# Altium schematic symbol library EitLib.SchLib: 60 symbols (part 1 of 3)
Pins are listed as number, name and electrical type; pins without a type are passive.

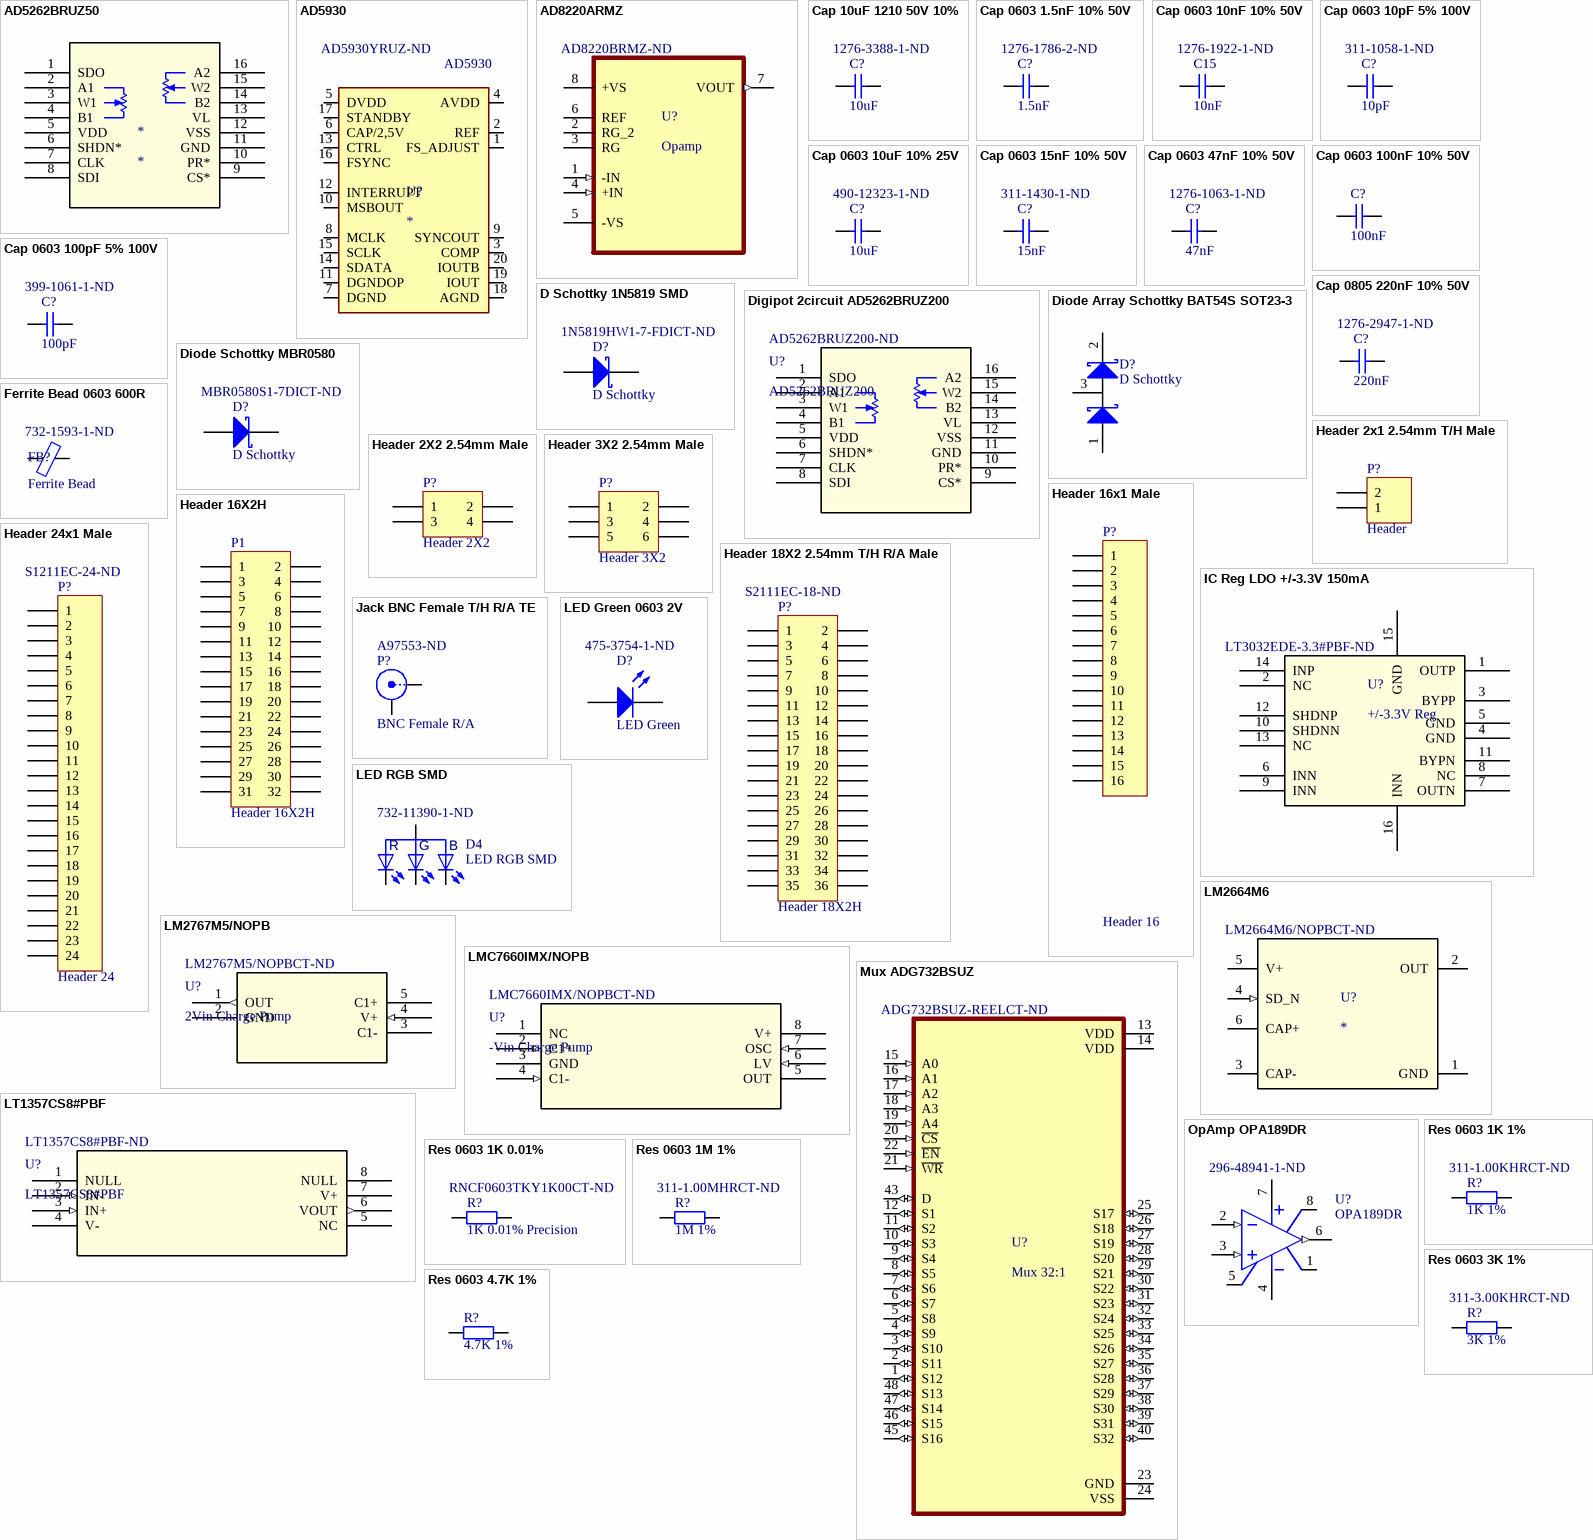
[diagram p0: symbols AD5262BRUZ50 to Res 0603 4.7K 1%]

## AD5262BRUZ50
designator *
Digital Potentiometer, 2 Func, 50000ohm, 3-wire Serial Control Interface, 256 Positions, PDSO16; Manufacturer: Analog Devices; Manufacturer Part Number: AD5262BRUZ50; Package Body Material: Plastic; Bandwidth-Nom: 130Hz; Negative Supply Voltage-Nom: -5V; Channels: 2; Number of Positions: 256; Package Equivalence Code: TSSOP16,.25; Power Supplies: 5/15/+-5V; Resistance Law: Linear; Resistance Tolerance-Max: 30%; Resistor Terminal Voltage-Max: 5V; Temperature Coefficient-Nom: 35ppm/°C; Time @ Peak Reflow Temperature-Max (s): 30s; Total Resistance-Nom: 50kR; Qualification Status: Not Qualified; Supplier: Digi-Key; Supplier Part Number: 505-AD5262BRUZ50-ND; RoHS: Yes; Category: Digital Potentiometers; Stock: 1452; Pricing: 1=6.18, 10=5.581, 25=5.3212, 100=4.6203, 250=4.41268, 500=4.02334, 1000=3.5042, 2500=3.37441 (USD); Case/Package: TSSOP; Pins: 16; Package Shape: Rectangular; Terminal Finish: Tin; Min Operating Temperature: -40°C; Max Operating Temperature: 85°C; JESD-609 Code: e3; Control Interface: 3-WIRE SERIAL; Converter Type: DIGITAL POTENTIOMETER; JESD-30 Code: R-PDSO-G16; Moisture Sensitivity Level: 1; Package Style: SMALL OUTLINE, THIN PROFILE, SHRINK PITCHMeter; Peak Reflow Temperature (Cel): 260°C; Resistor Terminal Voltage-Min: -5V; Nominal Supply Voltage: 5V; Surface Mount: Yes; Terminal Form: Gull Wing; Terminal Position: DUAL; Length: 5mm; Width: 4.4mm; Height - Seated (Max): 1.2mm; Terminal Pitch: 0.65mm; Temperature Grade: INDUSTRIAL; Reach SVHC Compliant: Yes; RoHS Compliant: Yes; ComponentLink1URL: https://datasheet.ciiva.com:443/pdfs/VipMasterIC/IC/ANDI/ANDIS19757/ANDIS19757-1.pdf?src-supplier=IHS+Markit; ComponentLink1Description: https://datasheet.ciiva.com:443/pdfs/VipMasterIC/IC/ANDI/ANDIS19757/ANDIS19757-1.pdf?src-supplier=IHS+Markit; ComponentLink2URL: https://datasheet.ciiva.com/3045/ad5260-5262-3045560.pdf?src-supplier=Avnet; ComponentLink2Description: https://datasheet.ciiva.com/3045/ad5260-5262-3045560.pdf?src-supplier=Avnet; ComponentLink3URL: https://datasheet.ciiva.com/1331/ad5260-5262-1331021.pdf?src-supplier=Digi-Key; ComponentLink3Description: https://datasheet.ciiva.com/1331/ad5260-5262-1331021.pdf?src-supplier=Digi-Key; ComponentLink4URL: https://datasheet.ciiva.com/22652/686036-22652986.pdf?src-supplier=Element14; ComponentLink4Description: https://datasheet.ciiva.com/22652/686036-22652986.pdf?src-supplier=Element14
pins: 1 SDO, 2 A1, 3 W1, 4 B1, 5 VDD (power), 6 SHDN*, 7 CLK, 8 SDI, 9 CS*, 10 PR*, 11 GND, 12 VSS (power), 13 VL (power), 14 B2, 15 W2, 16 A2

## AD5930
designator U?  Supplier Part Number 1: AD5930YRUZ-ND
Direct Digital Synthesizer 50MHz 1-DAC 10bit Serial Automotive 20-Pin TSSOP Tube; Manufacturer Part Number: AD5930YRUZ; MP: AD5930; MF: Analog Devices; Resolution: 10b; Power Dissipation: 40mW; Number of Bits: 10; Min Supply Voltage: 2.3V; Max Supply Voltage: 5.5V; Number of Converters: 1; Signal to Noise Ratio (SNR): 60dB; Operating Supply Current: 8mA; Check_prices: https://www.snapeda.com/parts/AD5930/Analog%20Devices%20Inc./view-part/3610977/?ref=eda; SnapEDA_Link: https://www.snapeda.com/parts/AD5930/Analog%20Devices%20Inc./view-part/3610977/?ref=snap; Price: None; Package: TSSOP-20 Analog Devices; Availability: Bad; Value: *; Supplier 1: Digi-Key; Manufacturer: Analog Devices; RoHS: Yes; Category: Clock and Timing; Stock 1: 50; Pricing 1: 1=14.64000, 10=13.45200, 25=12.89440, 100=11.36110, 250=10.80352, 500=10.10650, 1000=9.27010 (USD); Mount: Surface Mount; Case/Package: TSSOP; Number of Pins: 20; Contact Plating: Tin,Matte; Min Operating Temperature: -40°C; Max Operating Temperature: 125°C; Packaging: Rail/Tube; Frequency: 50MHz; Package Quantity: 75; Series: -; Length: 6.5mm; Width: 4.4mm; Height: 1.05mm; Radiation Hardening: No; REACH SVHC: No SVHC; Lead Free: Contains Lead; RoHS Compliant: Yes; ComponentLink1URL: https://datasheet.ciiva.com/1699/ad5930-1699603.pdf?src-supplier=Digi-Key; ComponentLink1Description: https://datasheet.ciiva.com/1699/ad5930-1699603.pdf?src-supplier=Digi-Key; ComponentLink2URL: https://datasheet.ciiva.com/27747/1780598-27747765.pdf?src-supplier=Jameco; ComponentLink2Description: https://datasheet.ciiva.com/27747/1780598-27747765.pdf?src-supplier=Jameco; ComponentLink3URL: https://datasheet.ciiva.com/15100/getdatasheetpartid-145232-15100554.pdf?src-supplier=Verical; ComponentLink3Description: https://datasheet.ciiva.com/15100/getdatasheetpartid-145232-15100554.pdf?src-supplier=Verical; ComponentLink4URL: https://datasheet.ciiva.com/1138/1784513-1138350.pdf?src-supplier=Element14; ComponentLink4Description: https://datasheet.ciiva.com/1138/1784513-1138350.pdf?src-supplier=Element14; ComponentLink5URL: https://datasheet.ciiva.com/26828/ad5930yruz-26828194.pdf?src-supplier=IIIC; ComponentLink5Description: https://datasheet.ciiva.com/26828/ad5930yruz-26828194.pdf?src-supplier=IIIC; ComponentLink6URL: https://datasheet.ciiva.com/8082/ad5930-8082133.pdf?src-supplier=Avnet; ComponentLink6Description: https://datasheet.ciiva.com/8082/ad5930-8082133.pdf?src-supplier=Avnet; ComponentLink7URL: https://datasheet.ciiva.com/16643/ad5930-16643366.pdf?src-supplier=Avnet+Europe; ComponentLink7Description: https://datasheet.ciiva.com/16643/ad5930-16643366.pdf?src-supplier=Avnet+Europe
footprint TSSOP20
pins: 1 FS_ADJUST (io), 2 REF (io), 3 COMP (io), 4 AVDD (power), 5 DVDD (power), 6 CAP/2,5V (io), 7 DGND (power), 8 MCLK (io), 9 SYNCOUT (io), 10 MSBOUT (io), 11 DGNDOP (power), 12 INTERRUPT (io), 13 CTRL (io), 14 SDATA (io), 15 SCLK (io), 16 FSYNC (io), 17 STANDBY (io), 18 AGND (power), 19 IOUT (io), 20 IOUTB (io)

## AD8220ARMZ
designator U?, comment Opamp  Supplier Part Number 1: AD8220BRMZ-ND
ANALOG DEVICES   AD8220BRMZ   Instrument Amplifier, 1, 125 V, 2 V/s, 800 kHz,  2.25V to  18V, MSOP; Number of Channels: 1; Common Mode Rejection Ratio: 100dB; Max Supply Voltage: 36V; Min Supply Voltage: 4.5V; Bandwidth: 800kHz; Operating Supply Voltage: 28V; -3db Bandwidth: 1.5MHz; Dual Supply Voltage: 9V; Slew Rate: 2V/µs; Input Bias Current: 10pA; Input Offset Voltage (Vos): 125uV; Voltage Gain: 60dB; Operating Supply Current: 750uA; Output Current per Channel: 15mA; Amplifier Type: INSTRUMENTATION AMPLIFIER; Supplier 1: Digi-Key; Manufacturer: Analog Devices; Manufacturer Part Number: AD8220BRMZ; RoHS: Yes; Category: Amplifiers - Op Amps, Buffer, Instrumentation; Stock 1: 568; Pricing 1: 1=10.39000, 10=9.38900, 25=8.95280, 100=7.77360, 250=7.42424, 500=6.76916, 1000=6.18000 (USD); Case/Package: MSOP; Number of Pins: 8; Min Operating Temperature: -40°C; Max Operating Temperature: 85°C; Package Quantity: 50; Number of Elements: 1; Min Dual Supply Voltage: 2.25V; Max Dual Supply Voltage: 18V; Packaging: Rail/Tube; Number of Circuits: 1; Number of Amplifiers: 1; Series: -; Length: 3mm; Width: 3mm; Height: 0.85mm; Radiation Hardening: No; REACH SVHC: No SVHC; Lead Free: Contains Lead; RoHS Compliant: Yes; ComponentLink1URL: https://datasheet.ciiva.com/15128/getdatasheetpartid-237631-15128545.pdf?src-supplier=Verical; ComponentLink1Description: https://datasheet.ciiva.com/15128/getdatasheetpartid-237631-15128545.pdf?src-supplier=Verical; ComponentLink2URL: https://datasheet.ciiva.com/26848/ad8220brmz-26848766.pdf?src-supplier=IIIC; ComponentLink2Description: https://datasheet.ciiva.com/26848/ad8220brmz-26848766.pdf?src-supplier=IIIC; ComponentLink3URL: https://datasheet.ciiva.com/1810/ad8220-1810510.pdf?src-supplier=Digi-Key; ComponentLink3Description: https://datasheet.ciiva.com/1810/ad8220-1810510.pdf?src-supplier=Digi-Key; ComponentLink4URL: https://datasheet.ciiva.com/2975/ad8220-2975654.pdf?src-supplier=Avnet; ComponentLink4Description: https://datasheet.ciiva.com/2975/ad8220-2975654.pdf?src-supplier=Avnet; ComponentLink5URL: https://datasheet.ciiva.com/1135/716986-1135108.pdf?src-supplier=Element14; ComponentLink5Description: https://datasheet.ciiva.com/1135/716986-1135108.pdf?src-supplier=Element14; ComponentLink6URL: https://datasheet.ciiva.com/17374/ad8220-17374085.pdf?src-supplier=Avnet+Europe; ComponentLink6Description: https://datasheet.ciiva.com/17374/ad8220-17374085.pdf?src-supplier=Avnet+Europe
footprint SOP65P490X110-8N
pins: 1 -IN (in), 2 RG_2, 3 RG, 4 +IN (in), 5 -VS (power), 6 REF, 7 VOUT (out), 8 +VS (power)

## Cap 10uF 1210 50V 10%
designator C?, comment 10uF  Supplier Part Number 1: 1276-3388-1-ND
Cap Ceramic 10uF 50V X7R 10% Pad SMD 1210 125C T/R; Manufacturer: Samsung; Manufacturer Part Number: CL32B106KBJNNWE; Supplier 1: Digi-Key; RoHS: Yes; Category: Ceramic Capacitors; Stock 1: 1227784; Pricing 1: 1=0.63000, 10=0.44600, 50=0.33760, 100=0.29400, 500=0.21780 (USD); Mount: Surface Mount; Case/Package: 1210; Case Code (Imperial): 1210; Case Code (Metric): 3225; Min Operating Temperature: -55°C; Max Operating Temperature: 125°C; Dielectric: X7R; Capacitance: 10uF; Voltage Rating: 50V; Tolerance: 10%; Package Quantity: 1; Packaging: Tape and Reel; Length: 0.126inch; Width: 0.098inch; Thickness: 0.106inch; Lead Free: Lead Free; ComponentLink1URL: https://datasheet.ciiva.com/25721/cl32b106kbjnnwe-25721651.pdf?src-supplier=Digi-Key; ComponentLink1Description: https://datasheet.ciiva.com/25721/cl32b106kbjnnwe-25721651.pdf?src-supplier=Digi-Key
simulation model CAP (Capacitor)
signal-integrity model Cap
pins: 1, 2

## Cap 0603 1.5nF 10% 50V
designator C?, comment 1.5nF  Supplier Part Number 1: 1276-1786-2-ND
Ceramic capacitor SMD-0603 1, 5nF /50V X7R# K +-10%, Samsung, RoHS; Manufacturer Part Number: CL10B152KB8NNNC; Tolerance: 10%; Voltage Rating: 50V; Dielectric: X7R; Supplier 1: Digi-Key; Manufacturer: Samsung; RoHS: Yes; Category: Ceramic Capacitors; Stock 1: 252000; Pricing 1: 4000=0.00765 (USD); Mount: Surface Mount; Case/Package: 0603; Case Code (Metric): 1608; Case Code (Imperial): 0603; Material: Ceramic; Contact Plating: Tin; Min Operating Temperature: -55°C; Max Operating Temperature: 125°C; Capacitance: 1.5nF; Packaging: Tape and Reel; Package Quantity: 1; Voltage: 50V; Series: CL; Construction: Flat; Length: 1.6mm; Width: 0.031inch; Height: 0.8mm; Thickness: 0.035inch; Depth: 0.8mm; Radiation Hardening: No; RoHS Compliant: Yes; ComponentLink1URL: https://datasheet.ciiva.com/25802/cl10b152kb8nnnc-25802595.pdf?src-supplier=Digi-Key; ComponentLink1Description: https://datasheet.ciiva.com/25802/cl10b152kb8nnnc-25802595.pdf?src-supplier=Digi-Key; ComponentLink2URL: https://datasheet.ciiva.com/26838/getdatasheetpartid-640464-26838436.pdf?src-supplier=Verical; ComponentLink2Description: https://datasheet.ciiva.com/26838/getdatasheetpartid-640464-26838436.pdf?src-supplier=Verical; ComponentLink3URL: https://datasheet.ciiva.com/29198/458103-da-01-en-vs-kondensator-0603-29198610.pdf?src-supplier=Conrad; ComponentLink3Description: https://datasheet.ciiva.com/29198/458103-da-01-en-vs-kondensator-0603-29198610.pdf?src-supplier=Conrad; ComponentLink4URL: https://datasheet.ciiva.com/26310/mlcc-catalogdownload2013-eng-26310332.pdf?src-supplier=Distrelec; ComponentLink4Description: https://datasheet.ciiva.com/26310/mlcc-catalogdownload2013-eng-26310332.pdf?src-supplier=Distrelec
simulation model CAP (Capacitor)
signal-integrity model Cap
footprint 0603 CAP
pins: 1, 2

## Cap 0603 10nF 10% 50V
designator C15, comment 10nF  Supplier Part Number 1: 1276-1922-1-ND
CAP CER 10000PF 50V X7R 0603; Manufacturer: Samsung; Manufacturer Part Number: CL10B103KB8NFNC; Tolerance: 10%; Supplier 1: Digi-Key; RoHS: Yes; Category: Ceramic Capacitors; Stock 1: 172215; Pricing 1: 1=0.10000, 10=0.03700, 50=0.02020, 100=0.01650, 500=0.01176, 1000=0.00923 (USD); Mount: Surface Mount; Case/Package: 0603; Case Code (Metric): 1608; Case Code (Imperial): 0603; Contact Plating: Tin,Matte; Min Operating Temperature: -55°C; Max Operating Temperature: 125°C; Packaging: Tape and Reel; Capacitance: 10nF; Voltage Rating: 50V; Dielectric: X7R; Series: CL; Construction: Flat; Length: 0.063inch; Width: 0.031inch; Height: 0.8mm; Thickness: 0.035inch; Depth: 0.8mm; Radiation Hardening: No; RoHS Compliant: Yes; ComponentLink1URL: https://datasheet.ciiva.com/25712/cl10b103kb8nfnc-25712209.pdf?src-supplier=Digi-Key; ComponentLink1Description: https://datasheet.ciiva.com/25712/cl10b103kb8nfnc-25712209.pdf?src-supplier=Digi-Key
simulation model CAP (Capacitor)
signal-integrity model Cap
footprint 0603 CAP
pins: 1, 2

## Cap 0603 10pF 5% 100V
designator C?, comment 10pF  Supplier Part Number 1: 311-1058-1-ND
CAP, MLCC, C0G/NP0, 10PF, 50V,0603, REEL; Product Range:YAGEO - CC Series; Capacitance:10pF; Capacitance Tolerance:± 5%; Dielectric Characteristic:C0G / NP0; Voltage Rating:50V; Ceramic Capacitor Case:0603 [1608 Metric]; Operating Temperature Min:-55°C; Operating Temperature Max:125°C; Packaging:Tape & Reel; MSL:MSL 1 - Unlimited; SVHC:No SVHC (16-Dec-2013); Capacitance Tolerance ±:± 5%; Capacitor Case Style:0603 [1608 Metric]; Capacitor Terminals:SMD; No. of Pins:2; Operating Temperature Range:-55°C to +125°C; Reel Quantity:4000; Temperature Coefficient:0ppm/°C ± 30ppm/°C; Terminal Type:Surfa; Manufacturer: Yageo; Manufacturer Part Number: CC0603JRNPO9BN100; Dielectric: C0G; Insulation Resistance: 100GR; Supplier 1: Digi-Key; RoHS: Yes; Category: Ceramic Capacitors; Stock 1: 559632; Pricing 1: 1=0.10000, 10=0.04100, 50=0.02220, 100=0.01810, 500=0.01296, 1000=0.01018 (USD); Mount: Surface Mount; Case/Package: 0603; Number of Pins: 2; Case Code (Metric): 1608; Case Code (Imperial): 0603; Min Operating Temperature: -55°C; Max Operating Temperature: 125°C; Capacitance: 10pF; Tolerance: 5%; Voltage Rating: 50V; Voltage Rating (DC): 50V; Packaging: Tape and Reel; Package Quantity: 1; Termination: SMD/SMT; Resistor Type: Ceramic; Voltage: 50V; Temperature Coefficient: 30ppm/°C; Series: CC; Length: 1.6mm; Width: 0.031inch; Height: 0.8mm; Thickness: 0.035inch; Depth: 0.8mm; Radiation Hardening: No; REACH SVHC: No SVHC; Lead Free: Lead Free; RoHS Compliant: Yes; ComponentLink1URL: https://datasheet.ciiva.com/144/mlccorderingcode-144651.pdf?src-supplier=Digi-Key; ComponentLink1Description: https://datasheet.ciiva.com/144/mlccorderingcode-144651.pdf?src-supplier=Digi-Key; ComponentLink2URL: https://datasheet.ciiva.com/5789/1734582-5789616.pdf?src-supplier=Farnell; ComponentLink2Description: https://datasheet.ciiva.com/5789/1734582-5789616.pdf?src-supplier=Farnell; ComponentLink3URL: https://datasheet.ciiva.com/11786/0900766b8079c870-11786407.pdf?src-supplier=RSComponents; ComponentLink3Description: https://datasheet.ciiva.com/11786/0900766b8079c870-11786407.pdf?src-supplier=RSComponents; ComponentLink4URL: https://datasheet.ciiva.com/26862/getdatasheetpartid-403524-26862758.pdf?src-supplier=Verical; ComponentLink4Description: https://datasheet.ciiva.com/26862/getdatasheetpartid-403524-26862758.pdf?src-supplier=Verical; ComponentLink5URL: https://datasheet.ciiva.com/144/mlccorderingcode-144649.pdf?src-supplier=Digi-Key; ComponentLink5Description: https://datasheet.ciiva.com/144/mlccorderingcode-144649.pdf?src-supplier=Digi-Key; ComponentLink6URL: https://datasheet.ciiva.com/144/mlccorderingcode-144650.pdf?src-supplier=Digi-Key; ComponentLink6Description: https://datasheet.ciiva.com/144/mlccorderingcode-144650.pdf?src-supplier=Digi-Key; ComponentLink7URL: https://datasheet.ciiva.com/5425/upy-gp-np0-16v-to-50v-8-5425564.pdf?src-supplier=Mouser; ComponentLink7Description: https://datasheet.ciiva.com/5425/upy-gp-np0-16v-to-50v-8-5425564.pdf?src-supplier=Mouser; ComponentLink8URL: https://datasheet.ciiva.com/16625/upy-gp-np0-16v-to-50v-8-16625514.pdf?src-supplier=Avnet+Europe; ComponentLink8Description: https://datasheet.ciiva.com/16625/upy-gp-np0-16v-to-50v-8-16625514.pdf?src-supplier=Avnet+Europe; ComponentLink9URL: https://datasheet.ciiva.com/7978/1132289-7978126.pdf?src-supplier=Element14; ComponentLink9Description: https://datasheet.ciiva.com/7978/1132289-7978126.pdf?src-supplier=Element14; ComponentLink10URL: https://datasheet.ciiva.com/8033/1734582-8033706.pdf?src-supplier=Element14; ComponentLink10Description: https://datasheet.ciiva.com/8033/1734582-8033706.pdf?src-supplier=Element14; ComponentLink11URL: https://datasheet.ciiva.com/8033/1734582-8033710.pdf?src-supplier=Element14; ComponentLink11Description: https://datasheet.ciiva.com/8033/1734582-8033710.pdf?src-supplier=Element14; ComponentLink12URL: https://datasheet.ciiva.com/46430/1835847-46430150.pdf?src-supplier=Element14; ComponentLink12Description: https://datasheet.ciiva.com/46430/1835847-46430150.pdf?src-supplier=Element14
simulation model CAP (Capacitor)
signal-integrity model Cap
footprint 0603 CAP
pins: 1, 2

## Cap 0603 10uF 10% 25V
designator C?, comment 10uF  Supplier Part Number 1: 490-12323-1-ND
0603 10 uF 25 V ±20 % Tolerance X5R Surface Mount Multilayer Ceramic Capacitor; Manufacturer: Murata; Manufacturer Part Number: GRT188R61E106ME13D; Voltage Rating: 25V; Tolerance: 20%; Supplier 1: Digi-Key; RoHS: No; Category: Ceramic Capacitors; Stock 1: 290939; Pricing 1: 1=0.53000, 10=0.36700, 50=0.25660, 100=0.22000, 500=0.16498, 1000=0.13932 (USD); Mount: Surface Mount; Case/Package: 0603; Case Code (Metric): 1608; Case Code (Imperial): 0603; Min Operating Temperature: -55°C; Max Operating Temperature: 85°C; Packaging: Tape and Reel; Capacitance: 10uF; Length: 0.063inch; Width: 0.031inch; Thickness: 0.035inch; Ratings: AEC-Q200; RoHS Compliant: No; ComponentLink1URL: https://search.murata.co.jp/Ceramy/image/img/A01X/G101/ENG/GRT188R61E106ME13-01.pdf?src-supplier=Digi-Key; ComponentLink1Description: https://search.murata.co.jp/Ceramy/image/img/A01X/G101/ENG/GRT188R61E106ME13-01.pdf?src-supplier=Digi-Key; ComponentLink2URL: http://search.murata.co.jp/Ceramy/image/img/A01X/G101/ENG/GRT188R61E106ME13-01.pdf?src-supplier=Digi-Key; ComponentLink2Description: http://search.murata.co.jp/Ceramy/image/img/A01X/G101/ENG/GRT188R61E106ME13-01.pdf?src-supplier=Digi-Key
simulation model CAP (Capacitor)
signal-integrity model Cap
footprint 0603 CAP
pins: 1, 2

## Cap 0603 15nF 10% 50V
designator C?, comment 15nF  Supplier Part Number 1: 311-1430-1-ND
Cap Ceramic 0.015uF 50V X7R 10% SMD 0603 125C T/R; Manufacturer: Yageo; Manufacturer Part Number: CC0603KRX7R9BB153; Insulation Resistance: 10GR; Dissipation Factor: 2.5%; Supplier 1: Digi-Key; RoHS: Yes; Category: Ceramic Capacitors; Stock 1: 123647; Pricing 1: 1=0.10000, 10=0.05200, 50=0.02840, 100=0.02330, 500=0.01662, 1000=0.01306 (USD); Mount: Surface Mount; Case/Package: 0603; Case Code (Metric): 1608; Case Code (Imperial): 0603; Dielectric Material: Ceramic; Min Operating Temperature: -55°C; Max Operating Temperature: 125°C; Package Quantity: 1; Capacitance: 15nF; Voltage Rating: 50V; Tolerance: 10%; Packaging: Tape and Reel; Voltage Rating (DC): 50V; Dielectric: X7R; Termination: SMD/SMT; Resistor Type: Ceramic; Voltage: 50V; Series: CC; Length: 1.6mm; Width: 0.031inch; Height: 0.8mm; Thickness: 0.035inch; Depth: 0.8mm; Radiation Hardening: No; REACH SVHC: Unknown; Lead Free: Lead Free; Halogen Free: Halogen Free; RoHS Compliant: Yes; ComponentLink1URL: https://datasheet.ciiva.com/26918/getdatasheetpartid-403585-26918319.pdf?src-supplier=Verical; ComponentLink1Description: https://datasheet.ciiva.com/26918/getdatasheetpartid-403585-26918319.pdf?src-supplier=Verical; ComponentLink2URL: https://datasheet.ciiva.com/176/mlccorderingcode-176402.pdf?src-supplier=Digi-Key; ComponentLink2Description: https://datasheet.ciiva.com/176/mlccorderingcode-176402.pdf?src-supplier=Digi-Key; ComponentLink3URL: https://datasheet.ciiva.com/11587/upy-gphc-x7r-6-3v-to-50v-8-11587221.pdf?src-supplier=Avnet; ComponentLink3Description: https://datasheet.ciiva.com/11587/upy-gphc-x7r-6-3v-to-50v-8-11587221.pdf?src-supplier=Avnet; ComponentLink4URL: https://datasheet.ciiva.com/176/mlccorderingcode-176400.pdf?src-supplier=Digi-Key; ComponentLink4Description: https://datasheet.ciiva.com/176/mlccorderingcode-176400.pdf?src-supplier=Digi-Key; ComponentLink5URL: https://datasheet.ciiva.com/176/mlccorderingcode-176401.pdf?src-supplier=Digi-Key; ComponentLink5Description: https://datasheet.ciiva.com/176/mlccorderingcode-176401.pdf?src-supplier=Digi-Key; ComponentLink6URL: https://datasheet.ciiva.com/17434/upy-gphc-x7r-6-3v-to-50v-8-17434649.pdf?src-supplier=Avnet+Europe; ComponentLink6Description: https://datasheet.ciiva.com/17434/upy-gphc-x7r-6-3v-to-50v-8-17434649.pdf?src-supplier=Avnet+Europe; ComponentLink7URL: https://datasheet.ciiva.com/7978/1489800-7978167.pdf?src-supplier=Element14; ComponentLink7Description: https://datasheet.ciiva.com/7978/1489800-7978167.pdf?src-supplier=Element14
simulation model CAP (Capacitor)
signal-integrity model Cap
footprint 0603 CAP
pins: 1, 2

## Cap 0603 47nF 10% 50V
designator C?, comment 47nF  Supplier Part Number 1: 1276-1063-1-ND
CAP CER 0.047UF 50V X7R 0603; Manufacturer: Samsung; Manufacturer Part Number: CL10B473KB8NNNC; Material: Ceramic; Tolerance: 10%; Dielectric: Y5V; Supplier 1: Digi-Key; RoHS: Yes; Category: Ceramic Capacitors; Stock 1: 641905; Pricing 1: 1=0.10000, 10=0.03200, 50=0.01740, 100=0.01420, 500=0.01012, 1000=0.00796 (USD); Mount: Surface Mount; Case/Package: 0603; Case Code (Metric): 1608; Case Code (Imperial): 0603; Contact Plating: Tin; Min Operating Temperature: -55°C; Max Operating Temperature: 125°C; Packaging: Tape and Reel; Package Quantity: 4000; Series: CL; Capacitance: 47nF; Voltage Rating: 50V; Voltage Rating (DC): 50V; Voltage: 50V; Construction: Flat; Length: 1.6mm; Width: 0.031inch; Height: 0.8mm; Thickness: 0.035inch; Depth: 0.8mm; Radiation Hardening: No; RoHS Compliant: Yes; Lead Free: Lead Free; ComponentLink1URL: https://datasheet.ciiva.com/25802/cl10b473kb8nnnc-25802915.pdf?src-supplier=Digi-Key; ComponentLink1Description: https://datasheet.ciiva.com/25802/cl10b473kb8nnnc-25802915.pdf?src-supplier=Digi-Key; ComponentLink2URL: https://datasheet.ciiva.com/15216/getdatasheetpartid-359560-15216232.pdf?src-supplier=Verical; ComponentLink2Description: https://datasheet.ciiva.com/15216/getdatasheetpartid-359560-15216232.pdf?src-supplier=Verical; ComponentLink3URL: https://datasheet.ciiva.com/29198/456947-da-01-en-vs-kondensator-0603-29198896.pdf?src-supplier=Conrad; ComponentLink3Description: https://datasheet.ciiva.com/29198/456947-da-01-en-vs-kondensator-0603-29198896.pdf?src-supplier=Conrad; ComponentLink4URL: https://datasheet.ciiva.com/26310/mlcc-catalogdownload2013-eng-26310327.pdf?src-supplier=Distrelec; ComponentLink4Description: https://datasheet.ciiva.com/26310/mlcc-catalogdownload2013-eng-26310327.pdf?src-supplier=Distrelec; ComponentLink5URL: https://datasheet.ciiva.com/20173/71-0317-20173339.pdf?src-supplier=Rapid+Electronics; ComponentLink5Description: https://datasheet.ciiva.com/20173/71-0317-20173339.pdf?src-supplier=Rapid+Electronics
simulation model CAP (Capacitor)
signal-integrity model Cap
footprint 0603 CAP
pins: 1, 2

## Cap 0603 100nF 10% 50V
designator C?, comment 100nF
Multi Layer Ceramic Capacitor (MLCC) / Cap Ceramic 0.1uF 50V X7R 10% Pad SMD 0603 125¡ãC T/R; Manufacturer: Samsung; Manufacturer Part Number: CL10B104KB8NNNC; Supplier 1: Digi-Key; RoHS: Yes; Category: Ceramic Capacitors; Stock 1: 16768569; Pricing 1: 1=0.10000, 10=0.03000, 50=0.01620, 100=0.01330, 500=0.00950, 1000=0.00746 (USD); Mount: Surface Mount; Case/Package: 0603; Case Code (Metric): 1608; Case Code (Imperial): 0603; Material: Ceramic; Contact Plating: Tin; Min Operating Temperature: -55°C; Max Operating Temperature: 125°C; Tolerance: 10%; Package Quantity: 1; Packaging: Tape and Reel; Capacitance: 100nF; Dielectric: X7R; Series: CL; Voltage Rating: 50V; Voltage: 50V; Voltage Rating (DC): 50V; Construction: Flat; Length: 1.6mm; Width: 0.031inch; Height: 0.8mm; Depth: 0.8mm; Thickness: 0.035inch; Radiation Hardening: No; Lead Free: Lead Free; RoHS Compliant: Yes; ComponentLink1URL: https://datasheet.ciiva.com/25803/cl10b104kb8nnnc-25803393.pdf?src-supplier=Digi-Key; ComponentLink1Description: https://datasheet.ciiva.com/25803/cl10b104kb8nnnc-25803393.pdf?src-supplier=Digi-Key; ComponentLink2URL: https://datasheet.ciiva.com/26838/getdatasheetpartid-89097-26838411.pdf?src-supplier=Verical; ComponentLink2Description: https://datasheet.ciiva.com/26838/getdatasheetpartid-89097-26838411.pdf?src-supplier=Verical; ComponentLink3URL: https://datasheet.ciiva.com/29198/456651-da-01-en-vs-kondensator-0605-29198839.pdf?src-supplier=Conrad; ComponentLink3Description: https://datasheet.ciiva.com/29198/456651-da-01-en-vs-kondensator-0605-29198839.pdf?src-supplier=Conrad; Supplier Part Number 1: 1276-1000-1-ND
simulation model CAP (Capacitor)
signal-integrity model Cap
footprint 0603 CAP
pins: 1, 2

## Cap 0603 100pF 5% 100V
designator C?, comment 100pF  Supplier Part Number 1: 399-1061-1-ND
KEMET - C0603C101J5GACTU - SMD Multilayer Ceramic Capacitor, 100 pF, 50 V, 0603 [1608 Metric], &#177; 5%, C0G / NP0, C Series KEMET; Voltage Rating: 50V; Dissipation Factor: 0.1%; Temperature Coefficient: 30ppm/°C; Supplier 1: Digi-Key; Manufacturer: KEMET; Manufacturer Part Number: C0603C101J5GACTU; RoHS: Yes; Category: Ceramic Capacitors; Stock 1: 1110947; Pricing 1: 1=0.12000, 10=0.08700, 50=0.04760, 100=0.03890, 500=0.02778, 1000=0.02182 (USD); Mount: Surface Mount; Case/Package: 0603; Number of Pins: 2; Case Code (Imperial): 0603; Case Code (Metric): 1608; Contact Material: Tin; Dielectric Material: Ceramic; Min Operating Temperature: -55°C; Max Operating Temperature: 125°C; Packaging: Tape and Reel; Package Quantity: 4000; Termination: SMD/SMT; Capacitance: 100pF; Tolerance: 5%; Voltage Rating (DC): 50V; Dielectric: NP0; Voltage: 50V; Series: C; Construction: Flat; Length: 1.6mm; Width: 0.8mm; Height: 0.8mm; Depth: 0.8mm; Lead Pitch: 0.7mm; Thickness: 0.034inch; Radiation Hardening: No; REACH SVHC: No SVHC; RoHS Compliant: Yes; ComponentLink1URL: https://datasheet.ciiva.com/6126/f9080b-0402-series-c0g-6126680.pdf?src-supplier=Farnell; ComponentLink1Description: https://datasheet.ciiva.com/6126/f9080b-0402-series-c0g-6126680.pdf?src-supplier=Farnell; ComponentLink2URL: https://datasheet.ciiva.com/13394/kem-c1003-c0g-smd-356956-13394447.pdf?src-supplier=Mouser; ComponentLink2Description: https://datasheet.ciiva.com/13394/kem-c1003-c0g-smd-356956-13394447.pdf?src-supplier=Mouser; ComponentLink3URL: https://datasheet.ciiva.com/26847/getdatasheetpartid-315853-26847483.pdf?src-supplier=Verical; ComponentLink3Description: https://datasheet.ciiva.com/26847/getdatasheetpartid-315853-26847483.pdf?src-supplier=Verical; ComponentLink4URL: https://datasheet.ciiva.com/7823/1725423-7823564.pdf?src-supplier=Element14; ComponentLink4Description: https://datasheet.ciiva.com/7823/1725423-7823564.pdf?src-supplier=Element14; ComponentLink5URL: https://datasheet.ciiva.com/7823/1725423-7823565.pdf?src-supplier=Element14; ComponentLink5Description: https://datasheet.ciiva.com/7823/1725423-7823565.pdf?src-supplier=Element14; ComponentLink6URL: https://datasheet.ciiva.com/7823/f9080b-0402-series-c0g-7823964.pdf?src-supplier=Element14; ComponentLink6Description: https://datasheet.ciiva.com/7823/f9080b-0402-series-c0g-7823964.pdf?src-supplier=Element14; ComponentLink7URL: https://datasheet.ciiva.com/7823/1372242-7823965.pdf?src-supplier=Element14; ComponentLink7Description: https://datasheet.ciiva.com/7823/1372242-7823965.pdf?src-supplier=Element14; ComponentLink8URL: https://datasheet.ciiva.com/28645/1789732-28645525.pdf?src-supplier=Element14; ComponentLink8Description: https://datasheet.ciiva.com/28645/1789732-28645525.pdf?src-supplier=Element14
simulation model CAP (Capacitor)
signal-integrity model Cap
footprint 0603 CAP
pins: 1, 2

## Cap 0805 220nF 10% 50V
designator C?, comment 220nF  Supplier Part Number 1: 1276-2947-1-ND
CAP CER 0.22UF 50V X7R 0805; Manufacturer: Samsung; Manufacturer Part Number: CL21B224KBFNFNE; Tolerance: 10%; Supplier 1: Digi-Key; RoHS: Yes; Category: Ceramic Capacitors; Stock 1: 195594; Pricing 1: 1=0.10000, 10=0.07200, 50=0.03960, 100=0.03230, 500=0.02306, 1000=0.01812 (USD); Mount: Surface Mount; Case/Package: 0805; Case Code (Metric): 2012; Case Code (Imperial): 0805; Min Operating Temperature: -55°C; Max Operating Temperature: 125°C; Package Quantity: 1; Packaging: Tape and Reel; Capacitance: 220nF; Voltage Rating: 50V; Dielectric: X7R; Series: CL; Construction: Flat; Length: 0.079inch; Width: 0.049inch; Height: 1.25mm; Thickness: 0.053inch; Depth: 1.25mm; Radiation Hardening: No; RoHS Compliant: Yes; ComponentLink1URL: https://media.digikey.com/pdf/Data%20Sheets/Samsung%20PDFs/CL_Series_MLCC_ds.pdf?src-supplier=Digi-Key; ComponentLink1Description: https://media.digikey.com/pdf/Data%20Sheets/Samsung%20PDFs/CL_Series_MLCC_ds.pdf?src-supplier=Digi-Key; ComponentLink2URL: http://samsungsem.co.kr/servlet/DownloadServlet?dir=partnumber&num=&fileName=CL21B224KBFNFNE3.pdf&src-supplier=Avnet; ComponentLink2Description: http://samsungsem.co.kr/servlet/DownloadServlet?dir=partnumber&num=&fileName=CL21B224KBFNFNE3.pdf&src-supplier=Avnet; ComponentLink3URL: http://www.samsungsem.com/kr/support/product-search/mlcc/CL21B224KBFNFNE.jsp?src-supplier=Digi-Key; ComponentLink3Description: http://www.samsungsem.com/kr/support/product-search/mlcc/CL21B224KBFNFNE.jsp?src-supplier=Digi-Key
simulation model CAP (Capacitor)
signal-integrity model Cap
footprint 0805 CAP
pins: 1, 2

## D Schottky 1N5819 SMD
designator D?, comment D Schottky  Supplier Part Number 1: 1N5819HW1-7-FDICT-ND
Schottky Diodes & Rectifiers 1A SBR 40Vrrm 0.51Vf 0.5mA 28Vrms; Manufacturer Part Number: 1N5819HW1-7-F; Reverse Recovery Time: 15ns; Max Reverse Voltage (DC): 40V; Supplier 1: Digi-Key; Manufacturer: Diodes; RoHS: Yes; Category: Rectifier Diodes; Stock 1: 3502; Pricing 1: 1=0.50000, 10=0.37600, 100=0.23410, 500=0.16016, 1000=0.12320 (USD); Mount: Surface Mount; Packaging: Tape and Reel; Average Rectified Current: 1A; RoHS Compliant: Yes; ComponentLink1URL: http://www.mouser.com/ds/2/115/1N5819HW1-1073911.pdf?src-supplier=Mouser; ComponentLink1Description: http://www.mouser.com/ds/2/115/1N5819HW1-1073911.pdf?src-supplier=Mouser; ComponentLink2URL: https://www.diodes.com/assets/Datasheets/1N5819HW1.pdf?src-supplier=Digi-Key; ComponentLink2Description: https://www.diodes.com/assets/Datasheets/1N5819HW1.pdf?src-supplier=Digi-Key
simulation model SKYDIODE (Diode)
signal-integrity model D Schottky
footprint SOD123F
pins: 1 A, 2 K

## Digipot 2circuit AD5262BRUZ200
designator U?, comment AD5262BRUZ200  Supplier Part Number 1: AD5262BRUZ200-ND
ANALOG DEVICES - AD5262BRUZ200 - IC, DIGITAL POT 8BIT 200K DUAL, SMD; Tolerance: 30%; Min Supply Voltage: 4.5V; Max Supply Voltage: 16.5V; Operating Supply Voltage: 15V; Resistance: 200kR; Nominal Supply Current: 25uA; Interface: SPI; Dual Supply Voltage: 5V; Max Dual Supply Voltage: 5.5V; Number of Circuits: 2; Number of Taps: 256; Memory Type: Volatile; Max Supply Current: 1uA; Temperature Coefficient: 35ppm/°C; Frequency: 25MHz; -3db Bandwidth: 310kHz; Supplier 1: Digi-Key; Manufacturer: Analog Devices; Manufacturer Part Number: AD5262BRUZ200; RoHS: Yes; Category: Digital Potentiometers; Stock 1: 96; Pricing 1: 1=5.81000, 10=5.22200, 25=4.93680, 100=4.27870, 250=4.05928, 500=3.64238, 1000=3.10500 (USD); Mount: Surface Mount; Case/Package: TSSOP; Number of Pins: 16; Contact Plating: Tin,Matte; Min Operating Temperature: -40°C; Max Operating Temperature: 85°C; Packaging: Rail/Tube; Package Quantity: 96; Min Dual Supply Voltage: 4.5V; Operating Supply Current: 25uA; Taper: Linear; Number of Positions: 256; Number of Elements: 2; Supply Current: 25uA; Series: -; Resistance Tolerance: 30%; Length: 5mm; Width: 4.4mm; Height: 1.05mm; Radiation Hardening: No; REACH SVHC: No SVHC; Lead Free: Contains Lead; RoHS Compliant: Yes; ComponentLink1URL: https://datasheet.ciiva.com/1145/686036-1145616.pdf?src-supplier=Element14; ComponentLink1Description: https://datasheet.ciiva.com/1145/686036-1145616.pdf?src-supplier=Element14; ComponentLink2URL: https://datasheet.ciiva.com/26801/ad5262bruz200-26801860.pdf?src-supplier=IIIC; ComponentLink2Description: https://datasheet.ciiva.com/26801/ad5262bruz200-26801860.pdf?src-supplier=IIIC; ComponentLink3URL: https://datasheet.ciiva.com/3045/ad5260-5262-3045958.pdf?src-supplier=Avnet; ComponentLink3Description: https://datasheet.ciiva.com/3045/ad5260-5262-3045958.pdf?src-supplier=Avnet; ComponentLink4URL: https://datasheet.ciiva.com/1149/686036-1149789.pdf?src-supplier=Farnell; ComponentLink4Description: https://datasheet.ciiva.com/1149/686036-1149789.pdf?src-supplier=Farnell; ComponentLink5URL: https://datasheet.ciiva.com/1331/ad5260-5262-1331018.pdf?src-supplier=Digi-Key; ComponentLink5Description: https://datasheet.ciiva.com/1331/ad5260-5262-1331018.pdf?src-supplier=Digi-Key; ComponentLink6URL: https://datasheet.ciiva.com/16597/ad5260-5262-16597563.pdf?src-supplier=Avnet+Europe; ComponentLink6Description: https://datasheet.ciiva.com/16597/ad5260-5262-16597563.pdf?src-supplier=Avnet+Europe; ComponentLink7URL: https://datasheet.ciiva.com/15145/getdatasheetpartid-130514-15145718.pdf?src-supplier=Verical; ComponentLink7Description: https://datasheet.ciiva.com/15145/getdatasheetpartid-130514-15145718.pdf?src-supplier=Verical; ComponentLink8URL: https://datasheet.ciiva.com/19478/1778287-19478949.pdf?src-supplier=Jameco; ComponentLink8Description: https://datasheet.ciiva.com/19478/1778287-19478949.pdf?src-supplier=Jameco
footprint TSSOP-16
pins: 1 SDO, 2 A1, 3 W1, 4 B1, 5 VDD (power), 6 SHDN*, 7 CLK, 8 SDI, 9 CS*, 10 PR*, 11 GND, 12 VSS (power), 13 VL (power), 14 B2, 15 W2, 16 A2

## Diode Array Schottky BAT54S SOT23-3
designator D?, comment D Schottky
Rectifier Diode Small Signal Schottky 40V 0.3A 5ns 3-Pin SOT-23 T/R; Manufacturer: STMicroelectronics; Manufacturer Part Number: BAT54SFILM; Max Surge Current: 1A; Forward Voltage: 900mV; Forward Current: 300mA; Max Reverse Current: 100uA; Max Reverse Leakage Current: 1uA; Element Configuration: Single; Voltage Rating (DC): 30V; Supplier 1: Digi-Key; RoHS: Yes; Category: Rectifier Diodes; Stock 1: 23811; Pricing 1: 1=0.25000, 10=0.20400, 100=0.10820, 500=0.07116, 1000=0.04838 (USD); Mount: Surface Mount; Case/Package: SOT-23; Number of Pins: 3; Weight: 0.1lb; Min Operating Temperature: -40°C; Max Operating Temperature: 150°C; Packaging: Tape and Reel; Package Quantity: 3000; Recovery Time: 5ns; Average Rectified Current: 300mA; Reverse Recovery Time: 5ns; Peak Non-Repetitive Surge Current: 1A; Max Repetitive Reverse Voltage (Vrrm): 40V; Max Forward Surge Current (Ifsm): 1A; Termination: SMD/SMT; Current Rating: 300mA; Max Reverse Voltage (DC): 40V; Length: 2.9mm; Width: 3.05mm; Height: 0.95mm; Radiation Hardening: No; REACH SVHC: No SVHC; Lead Free: Lead Free; RoHS Compliant: Yes; ComponentLink1URL: https://datasheet.ciiva.com/1200/cd00001322-1200682.pdf?src-supplier=Farnell; ComponentLink1Description: https://datasheet.ciiva.com/1200/cd00001322-1200682.pdf?src-supplier=Farnell; ComponentLink2URL: https://datasheet.ciiva.com/1200/1689724-1200683.pdf?src-supplier=Farnell; ComponentLink2Description: https://datasheet.ciiva.com/1200/1689724-1200683.pdf?src-supplier=Farnell; ComponentLink3URL: https://datasheet.ciiva.com/905/cd00001322-905881.pdf?src-supplier=Digi-Key; ComponentLink3Description: https://datasheet.ciiva.com/905/cd00001322-905881.pdf?src-supplier=Digi-Key; ComponentLink4URL: https://datasheet.ciiva.com/905/cd00001322-905882.pdf?src-supplier=Digi-Key; ComponentLink4Description: https://datasheet.ciiva.com/905/cd00001322-905882.pdf?src-supplier=Digi-Key; ComponentLink5URL: https://datasheet.ciiva.com/905/cd00001322-905883.pdf?src-supplier=Digi-Key; ComponentLink5Description: https://datasheet.ciiva.com/905/cd00001322-905883.pdf?src-supplier=Digi-Key; ComponentLink6URL: https://datasheet.ciiva.com/14168/cd00001322-14168028.pdf?src-supplier=Distrelec; ComponentLink6Description: https://datasheet.ciiva.com/14168/cd00001322-14168028.pdf?src-supplier=Distrelec; Supplier Part Number 1: 497-2522-1-ND
simulation model SKYDIODE (Diode)
signal-integrity model D Schottky
footprint SOT-23_STM-M
pins: 1 A, 2 K, 3 C

## Diode Schottky MBR0580
designator D?, comment D Schottky  Supplier Part Number 1: MBR0580S1-7DICT-ND
DIODES INC. - MBR0580S1-7 - Schottky Rectifier, 80 V, 500 mA, Single, SOD-123, 2 Pins, 800 mV; Capacitance: 1.5E-11F; Reverse Voltage (DC): 80V; Average Rectified Current: 500mA; Forward Voltage: 800mV; Max Forward Surge Current (Ifsm): 14A; Max Reverse Current: 5uA; Supplier 1: Digi-Key; Manufacturer: Diodes; Manufacturer Part Number: MBR0580S1-7; RoHS: Yes; Category: Rectifier Diodes; Stock 1: 266113; Pricing 1: 1=0.29000, 10=0.20100, 100=0.09790, 500=0.08170, 1000=0.05676 (USD); Mount: Surface Mount; Case/Package: SOD-123-2; Weight: 0.000353oz; Min Operating Temperature: -55°C; Max Operating Temperature: 175°C; Packaging: Tape and Reel; Element Configuration: Single; Forward Current: 500mA; Max Repetitive Reverse Voltage (Vrrm): 80V; Package Quantity: 3000; Max Reverse Voltage (DC): 80V; RoHS Compliant: Yes; ComponentLink1URL: http://www.farnell.com/datasheets/2814445.pdf?src-supplier=Farnell; ComponentLink1Description: http://www.farnell.com/datasheets/2814445.pdf?src-supplier=Farnell; ComponentLink2URL: http://www.mouser.com/ds/2/115/MBR0580S1-520249.pdf?src-supplier=Mouser; ComponentLink2Description: http://www.mouser.com/ds/2/115/MBR0580S1-520249.pdf?src-supplier=Mouser; ComponentLink3URL: https://media.digikey.com/pdf/Data%20Sheets/Diodes%20PDFs/MBR0580S1_R5.pdf?src-supplier=Digi-Key; ComponentLink3Description: https://media.digikey.com/pdf/Data%20Sheets/Diodes%20PDFs/MBR0580S1_R5.pdf?src-supplier=Digi-Key; ComponentLink4URL: http://www.farnell.com/datasheets/2814445.pdf?src-supplier=Element14; ComponentLink4Description: http://www.farnell.com/datasheets/2814445.pdf?src-supplier=Element14; ComponentLink5URL: http://www.farnell.com/datasheets/2814445.pdf?src-supplier=Newark; ComponentLink5Description: http://www.farnell.com/datasheets/2814445.pdf?src-supplier=Newark
simulation model SKYDIODE (Diode)
signal-integrity model D Schottky
footprint SOD-123
pins: 1 K, 2 A

## Ferrite Bead 0603 600R
designator FB?, comment Ferrite Bead  Supplier Part Number 1: 732-1593-1-ND
WURTH ELEKTRONIK - 742792651 - Ferrite Bead, 0603 [1608 Metric], 600 ohm, 1 A, WE-CBF Series, 0.2 ohm, &#177; 25%; Manufacturer: Wurth Electronics; Code_IEC: 1005; Inductance: 0.36H; Resistance: 200mR; Current Rating: 1A; Impedance: 600R; Number of Lines: 1; Test Frequency: 100MHz; PackageDescription: Chip Inductor; Code_JEITA: 0402; Supplier 1: Digi-Key; Manufacturer Part Number: 742792651; RoHS: Yes; Category: Ferrite Beads and Chips; Stock 1: 222780; Pricing 1: 1=0.17000, 50=0.16800, 100=0.15500, 500=0.14800, 1000=0.14100, 2000=0.13400 (USD); Mount: Surface Mount; Case/Package: SMD/SMT; Core Material: Ferrite; Weight: 0.000141oz; Case Code (Metric): 1608; Case Code (Imperial): 0603; Material: Ferrite; Min Operating Temperature: -55°C; Max Operating Temperature: 125°C; Tolerance: 25%; Package Quantity: 1; Packaging: Tape and Reel; Max Current Rating: 1A; DC Resistance (DCR): 200mR; Max DC Current: 1A; Termination: SMD/SMT; Series: WE-CBF; Length: 1.6mm; Width: 0.8mm; Height: 0.8mm; Depth: 0.8mm; REACH SVHC: Unknown; Lead Free: Lead Free; RoHS Compliant: Yes; ComponentLink1URL: https://datasheet.ciiva.com/1013/742792651-1013527.pdf?src-supplier=Digi-Key; ComponentLink1Description: https://datasheet.ciiva.com/1013/742792651-1013527.pdf?src-supplier=Digi-Key; ComponentLink2URL: https://datasheet.ciiva.com/1475/1705833-1475349.pdf?src-supplier=Farnell; ComponentLink2Description: https://datasheet.ciiva.com/1475/1705833-1475349.pdf?src-supplier=Farnell; ComponentLink3URL: https://datasheet.ciiva.com/4940/742792651-72243-4940492.pdf?src-supplier=Mouser; ComponentLink3Description: https://datasheet.ciiva.com/4940/742792651-72243-4940492.pdf?src-supplier=Mouser; ComponentLink4URL: https://datasheet.ciiva.com/11803/0900766b80d2e079-11803680.pdf?src-supplier=RSComponents; ComponentLink4Description: https://datasheet.ciiva.com/11803/0900766b80d2e079-11803680.pdf?src-supplier=RSComponents; ComponentLink5URL: https://datasheet.ciiva.com/1013/742792651-1013528.pdf?src-supplier=Digi-Key; ComponentLink5Description: https://datasheet.ciiva.com/1013/742792651-1013528.pdf?src-supplier=Digi-Key; ComponentLink6URL: https://datasheet.ciiva.com/1013/742792651-1013529.pdf?src-supplier=Digi-Key; ComponentLink6Description: https://datasheet.ciiva.com/1013/742792651-1013529.pdf?src-supplier=Digi-Key; ComponentLink7URL: https://datasheet.ciiva.com/22711/1705833-22711420.pdf?src-supplier=Element14; ComponentLink7Description: https://datasheet.ciiva.com/22711/1705833-22711420.pdf?src-supplier=Element14
simulation model INDUCTOR (Inductor)
signal-integrity model Inductor
footprint 0603 CAP
pins: 1, 2

## Header 2x1 2.54mm T/H Male
designator P?, comment Header
CONN HEADER VERT 2POS 2.54MM; Manufacturer: Sullins; Manufacturer Part Number: PRPC002SAAN-RC; Number of Positions: 2; Connector Type: Male Pin; Pitch: 0.1inch; Supplier 1: Digi-Key; RoHS: Yes; Category: Connectors; Stock 1: 34676; Pricing 1: 1=0.08000, 10=0.07300, 25=0.05400, 50=0.04640, 100=0.04490, 250=0.03872, 500=0.03716 (USD); Mount: Through Hole; Color: Black; Contact Plating: Gold; Package Quantity: 1; Number of Rows: 1; Termination: Solder; Packaging: Bulk; Contact Mating Length: 0.23inch; ComponentLink1URL: https://datasheet.ciiva.com/741/xrxczzzsxxn-rc-st-11635-b-741243.pdf?src-supplier=Digi-Key; ComponentLink1Description: https://datasheet.ciiva.com/741/xrxczzzsxxn-rc-st-11635-b-741243.pdf?src-supplier=Digi-Key; Supplier Part Number 1: S1011EC-02-ND
signal-integrity model Connector
footprint HEADER 2.54MM 2X1 MALE (Connector; Header; 2 Position)
pins: 1, 2

## Header 2X2 2.54mm Male
designator P?, comment Header 2X2
Header, 2-Pin, Dual row
footprint HDR2X2 Male 2.54mm (Connector; Header; 2x2 Position)
signal-integrity model Connector
pins: 1, 2, 3, 4

## Header 3X2 2.54mm Male
designator P?, comment Header 3X2
Header, 3-Pin, Dual row
footprint HDR2X3 Male 2.54mm (Connector; Header; 3x2 Position)
signal-integrity model Connector
pins: 1, 2, 3, 4, 5, 6

## Header 16x1 Male
designator P?, comment Header 16
CONN HEADER .100 SNGL STR 24POS
footprint HDR1X16 (Footprint not found)
signal-integrity model Connector
pins: 1, 2, 3, 4, 5, 6, 7, 8, 9, 10, 11, 12, 13, 14, 15, 16

## Header 16X2H
designator P1
Header, 16-Pin, Dual row, Right Angle; LatestRevisionDate: 17-Jul-2002; LatestRevisionNote: Re-released for DXP Platform.; Publisher: Altium Limited
footprint HDR2X16H (Connector; Header; 16x2 Position; Right Angle)
signal-integrity model Connector
pins: 1, 2, 3, 4, 5, 6, 7, 8, 9, 10, 11, 12, 13, 14, 15, 16, 17, 18, 19, 20, 21, 22, 23, 24, 25, 26, 27, 28, 29, 30, 31, 32

## Header 18X2 2.54mm T/H R/A Male
designator P?, comment Header 18X2H  Supplier Part Number 1: S2111EC-18-ND
CONN HEADER .100 DUAL R/A 36POS; Manufacturer: Sullins; Manufacturer Part Number: PRPC018DBAN-M71RC; Number of Positions: 36; Connector Type: Male Pin; Pitch: 0.1inch; Supplier 1: Digi-Key; RoHS: Yes; Category: Connectors; Pricing 1: 1=1.38000, 10=1.25200, 25=1.17480, 50=1.12380, 100=1.07280, 250=0.97060, 500=0.89398 (USD); Mount: Through Hole; Color: Black; Contact Plating: Gold; Package Quantity: 1; Number of Rows: 2; Packaging: Bulk; Termination: Solder; Series: -; Contact Type: Male Pin; Row Spacing: 0.1inch; Contact Mating Length: 0.23inch; RoHS Compliant: Yes; ComponentLink1URL: https://datasheet.ciiva.com/741/xrxczzzdxxn-m71rc-11639-b-741667.pdf?src-supplier=Digi-Key; ComponentLink1Description: https://datasheet.ciiva.com/741/xrxczzzdxxn-m71rc-11639-b-741667.pdf?src-supplier=Digi-Key
footprint HDR2X18H (Connector; Header; 18x2 Position; Right Angle)
signal-integrity model Connector
pins: 1, 2, 3, 4, 5, 6, 7, 8, 9, 10, 11, 12, 13, 14, 15, 16, 17, 18, 19, 20, 21, 22, 23, 24, 25, 26, 27, 28, 29, 30, 31, 32, 33, 34, 35, 36

## Header 24x1 Male
designator P?, comment Header 24  Supplier Part Number 1: S1211EC-24-ND
CONN HEADER .100 SNGL STR 24POS; Manufacturer: Sullins; Manufacturer Part Number: PRPC024SFAN-RC; Number of Positions: 24; Connector Type: Male Pin; Pitch: 0.1inch; Supplier 1: Digi-Key; RoHS: Yes; Category: Connectors; Stock 1: 248; Pricing 1: 1=0.68000, 10=0.63500, 25=0.57160, 50=0.50800, 100=0.48690, 250=0.44452, 500=0.42336 (USD); Mount: Through Hole; Color: Black; Contact Plating: Gold; Package Quantity: 1; Number of Rows: 1; Packaging: Bulk; Termination: Solder; Series: -; Contact Type: Male Pin; Contact Mating Length: 0.318inch; RoHS Compliant: Yes; ComponentLink1URL: https://datasheet.ciiva.com/741/xrxczzzsxxn-rc-st-11635-b-741341.pdf?src-supplier=Digi-Key; ComponentLink1Description: https://datasheet.ciiva.com/741/xrxczzzsxxn-rc-st-11635-b-741341.pdf?src-supplier=Digi-Key
footprint HDR1X24 (Connector; Header; 24 Position)
signal-integrity model Connector
pins: 1, 2, 3, 4, 5, 6, 7, 8, 9, 10, 11, 12, 13, 14, 15, 16, 17, 18, 19, 20, 21, 22, 23, 24

## IC Reg LDO +/-3.3V 150mA
designator U?, comment +/-3.3V Reg  Supplier Part Number 1: LT3032EDE-3.3#PBF-ND
IC REG LINEAR +-3.3V 14DFN; Manufacturer: Analog Devices / Linear Technology; Manufacturer Part Number: LT3032EDE-3.3#PBF; Output Current: 150mA; Dropout Voltage: 270mV; Number of Regulators: 2; Min Current Limit: 170mA; Output Voltage: 3.3V; Supplier 1: Digi-Key; RoHS: Yes; Category: Voltage Regulators - Linear; Stock 1: 2734; Pricing 1: 1=5.87000, 10=5.27300, 25=4.98480, 100=4.32000, 250=4.09848, 500=3.67756, 1000=3.13500 (USD); Mount: Surface Mount; Case/Package: DFN; Number of Pins: 14; Min Operating Temperature: -40°C; Max Operating Temperature: 125°C; Packaging: Rail/Tube; Number of Outputs: 2; REACH SVHC: No SVHC; RoHS Compliant: Yes; ComponentLink1URL: http://farnell.com//datasheets/2281794.pdf?src-supplier=Farnell; ComponentLink1Description: http://farnell.com//datasheets/2281794.pdf?src-supplier=Farnell; ComponentLink2URL: http://www.linear.com/docs/44087?src-supplier=Digi-Key; ComponentLink2Description: http://www.linear.com/docs/44087?src-supplier=Digi-Key
footprint 14-DFN
pins: 1 OUTP (power), 2 NC, 3 BYPP, 4 GND (power), 5 GND (power), 6 INN (power), 7 OUTN (power), 8 NC, 9 INN (power), 10 SHDNN, 11 BYPN, 12 SHDNP, 13 NC, 14 INP (power), 15 GND (power), 16 INN (power)

## Jack BNC Female T/H R/A TE
designator P?, comment BNC Female R/A  Supplier Part Number 1: A97553-ND
Conn ZDC/BNC RCP 0Hz to 4GHz 50Ohm Solder RA Thru-Hole Gold Over Nickel Over Copper Individual; Manufacturer: TE Connectivity; Manufacturer Part Number: 1-1337543-0; Dielectric Material: PE; Impedance: 50R; Connector Type: BNC,Jack; Polarity: Normal; Number of Positions: 1; PCB Mount Retention: With; Sealable: No (Without); Connector System: Cable-to-Board; Operating Frequency: 0 to 4 GHz; Tail Length: 4.9mm; PCB Thickness: 0.13inch; Supplier 1: Digi-Key; RoHS: Yes; Category: RF / Coaxial Connectors; Stock 1: 4913; Pricing 1: 1=1.67000, 10=1.51800, 25=1.42520, 50=1.36300, 100=1.30110, 250=1.17716, 500=1.08424, 1000=0.92935 (USD); Contact Material: Brass; Contact Plating: Gold; Color: White; Plating: Nickel; Body Plating: Nickel; Insulation Material: Polyethylene; Housing Color: White; Min Operating Temperature: -67°C; Max Operating Temperature: 185°C; Packaging: Box; Gender: Female; Frequency: 4GHz; Package Quantity: 100; Fastening Type: Bayonet; Termination: Solder; Max Frequency: 4GHz; Orientation: Right Angle; Series: BNC; Length: 14.7mm; Depth: 34.9mm; Radiation Hardening: No; REACH SVHC: Unknown; RoHS Compliant: Yes; ComponentLink1URL: https://datasheet.ciiva.com/644/eng-cd-1337543-g-644734.pdf?src-supplier=Digi-Key; ComponentLink1Description: https://datasheet.ciiva.com/644/eng-cd-1337543-g-644734.pdf?src-supplier=Digi-Key; ComponentLink2URL: https://datasheet.ciiva.com/644/eng-cd-1337543-g-644734.pdf?src-supplier=Farnell; ComponentLink2Description: https://datasheet.ciiva.com/644/eng-cd-1337543-g-644734.pdf?src-supplier=Farnell; ComponentLink3URL: https://datasheet.ciiva.com/11763/0900766b805faaaa-11763772.pdf?src-supplier=RSComponents; ComponentLink3Description: https://datasheet.ciiva.com/11763/0900766b805faaaa-11763772.pdf?src-supplier=RSComponents; ComponentLink4URL: https://datasheet.ciiva.com/3133/eng-ds-6-1773448-5-zdc-rf-coax-50-75-ohm-1007-3133303.pdf?src-supplier=Avnet; ComponentLink4Description: https://datasheet.ciiva.com/3133/eng-ds-6-1773448-5-zdc-rf-coax-50-75-ohm-1007-3133303.pdf?src-supplier=Avnet; ComponentLink5URL: https://datasheet.ciiva.com/30238/eng-ds-6-1773448-5-zdc-rf-coax-50-75-ohm-1007-30238783.pdf?src-supplier=Onlinecomponents.com; ComponentLink5Description: https://datasheet.ciiva.com/30238/eng-ds-6-1773448-5-zdc-rf-coax-50-75-ohm-1007-30238783.pdf?src-supplier=Onlinecomponents.com; ComponentLink6URL: https://datasheet.ciiva.com/16653/eng-ds-6-1773448-5-zdc-rf-coax-50-75-ohm-1007-16653071.pdf?src-supplier=Avnet+Europe; ComponentLink6Description: https://datasheet.ciiva.com/16653/eng-ds-6-1773448-5-zdc-rf-coax-50-75-ohm-1007-16653071.pdf?src-supplier=Avnet+Europe; ComponentLink7URL: https://datasheet.ciiva.com/14567/70084602-14567445.pdf?src-supplier=Allied+Electronics; ComponentLink7Description: https://datasheet.ciiva.com/14567/70084602-14567445.pdf?src-supplier=Allied+Electronics; ComponentLink8URL: https://datasheet.ciiva.com/1115/580087-1115285.pdf?src-supplier=Element14; ComponentLink8Description: https://datasheet.ciiva.com/1115/580087-1115285.pdf?src-supplier=Element14
footprint BNC_RA CON (Connector; BNC Elbow)
signal-integrity model Connector
pins: 1 X, 2 Y